# Altium schematic symbol library Sensor_Humidity.SchLib: 14 symbols
Pins are listed as number, name and electrical type; pins without a type are passive.

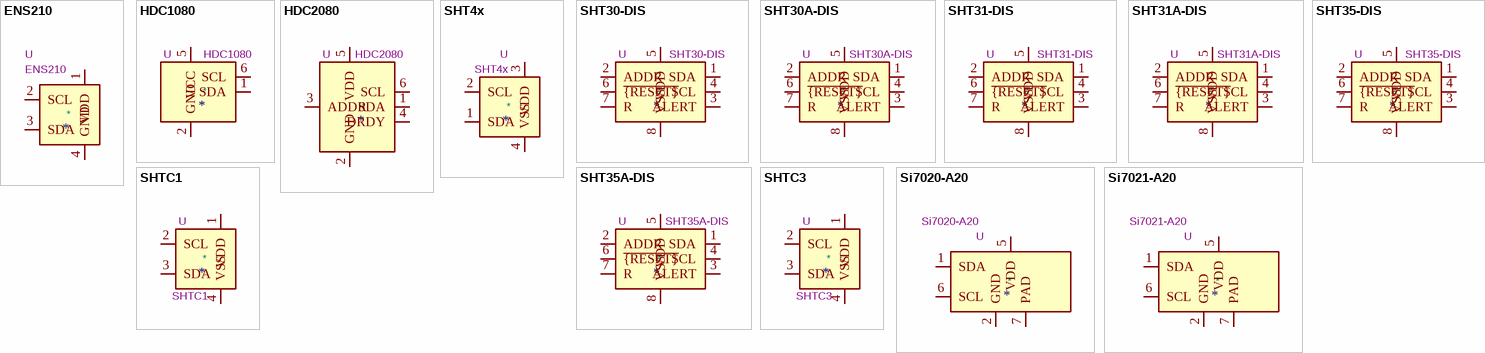
[diagram p0: symbols ENS210 to Si7021-A20]

## ENS210
designator *  value ENS210  Reference: U
ki_keywords: relative humidity temperature i2c pre-calibrated; ki_description: Relative Humidity and Temperature Sensor with I2C Interface; ki_fp_filters: AMS?QFN*EP*2x2mm*P0.95mm*; Footprint: Package_DFN_QFN:AMS_QFN-4-1EP_2x2mm_P0.95mm_EP0.7x1.6mm; Datasheet: http://ams.com/eng/Products/Environmental-Sensors/Relative-Humidity-and-Temperature-Sensors/ENS210
pins: 1 VDD, 2 SCL, 3 SDA, 4 GND, 5 GND hidden

## HDC1080
designator *  value HDC1080  Reference: U
ki_keywords: Temperature Humidity Sensor; ki_description: Low Power,High Accuracy Digital Humidity Sensor with Temperature Sensor; ki_fp_filters: Package*SON:Texas*PWSON*N6*; Footprint: Package_SON:Texas_PWSON-N6; Datasheet: http://www.ti.com/lit/ds/symlink/hdc1080.pdf
pins: 1 SDA, 2 GND, 3 NC hidden, 4 NC hidden, 5 VCC, 6 SCL, 7 DAP hidden

## HDC2080
designator *  value HDC2080  Reference: U
ki_keywords: Temperature Humidity Sensor; ki_description: Low Power Humidity and Temperature Sensor; ki_fp_filters: Package*SON:Texas*PWSON*N6*; Footprint: Package_SON:Texas_PWSON-N6; Datasheet: http://www.ti.com/lit/ds/symlink/hdc2080.pdf
pins: 1 SDA, 2 GND, 3 ADDR, 4 DRDY, 5 VDD, 6 SCL, 7 EP hidden

## SHT4x
designator *  value SHT4x  Reference: U
ki_keywords: Sensirion environment environmental measurement digital SHT40 SHT41 SHT45; ki_description: Digital Humidity and Temperature Sensor, +/-1%RH, +/-0.1degC, I2C, 1.08-3.6V, 16bit, DFN-4; ki_fp_filters: Sensirion?DFN*1.5x1.5mm*P0.8mm*SHT4x*; Footprint: Sensor_Humidity:Sensirion_DFN-4_1.5x1.5mm_P0.8mm_SHT4x_NoCentralPad; Datasheet: https://sensirion.com/media/documents/33FD6951/624C4357/Datasheet_SHT4x.pdf
pins: 1 SDA, 2 SCL, 3 VDD, 4 VSS

## SHT30-DIS
designator *  value SHT30-DIS  Reference: U
ki_keywords: digital temperature humidity i2c; ki_description: I²C humidity and temperature sensor, ±2%RH, ±0.2°C, DFN-8; ki_fp_filters: Sensirion*DFN*1EP*2.5x2.5mm*P0.5mm*; Footprint: Sensor_Humidity:Sensirion_DFN-8-1EP_2.5x2.5mm_P0.5mm_EP1.1x1.7mm; Datasheet: https://www.sensirion.com/fileadmin/user_upload/customers/sensirion/Dokumente/2_Humidity_Sensors/Datasheets/Sensirion_Humidity_Sensors_SHT3x_Datasheet_digital.pdf
pins: 1 SDA, 2 ADDR, 3 ALERT, 4 SCL, 5 VDD, 6 ~{{RESET}}, 7 R, 8 VSS, 9 VSS hidden

## SHT30A-DIS
designator *  value SHT30A-DIS  Reference: U
ki_keywords: digital temperature humidity automotive i2c; ki_description: I²C humidity and temperature sensor, ±3%RH, ±0.3°C, AEQ-100, DFN-8; ki_fp_filters: Sensirion*DFN*1EP*2.5x2.5mm*P0.5mm*; Footprint: Sensor_Humidity:Sensirion_DFN-8-1EP_2.5x2.5mm_P0.5mm_EP1.1x1.7mm; Datasheet: https://www.sensirion.com/fileadmin/user_upload/customers/sensirion/Dokumente/2_Humidity_Sensors/Datasheets/Sensirion_Humidity_Sensors_SHT3xA_Datasheet.pdf
pins: 1 SDA, 2 ADDR, 3 ALERT, 4 SCL, 5 VDD, 6 ~{{RESET}}, 7 R, 8 VSS, 9 VSS hidden

## SHT31-DIS
designator *  value SHT31-DIS  Reference: U
ki_keywords: digital temperature humidity i2c; ki_description: I²C humidity and temperature sensor, ±2%RH, ±0.2°C, DFN-8; ki_fp_filters: Sensirion*DFN*1EP*2.5x2.5mm*P0.5mm*; Footprint: Sensor_Humidity:Sensirion_DFN-8-1EP_2.5x2.5mm_P0.5mm_EP1.1x1.7mm; Datasheet: https://www.sensirion.com/fileadmin/user_upload/customers/sensirion/Dokumente/2_Humidity_Sensors/Datasheets/Sensirion_Humidity_Sensors_SHT3x_Datasheet_digital.pdf
pins: 1 SDA, 2 ADDR, 3 ALERT, 4 SCL, 5 VDD, 6 ~{{RESET}}, 7 R, 8 VSS, 9 VSS hidden

## SHT31A-DIS
designator *  value SHT31A-DIS  Reference: U
ki_keywords: digital temperature humidity automotive i2c; ki_description: I²C humidity and temperature sensor, ±2%RH, ±0.3°C, AEQ-100, DFN-8; ki_fp_filters: Sensirion*DFN*1EP*2.5x2.5mm*P0.5mm*; Footprint: Sensor_Humidity:Sensirion_DFN-8-1EP_2.5x2.5mm_P0.5mm_EP1.1x1.7mm; Datasheet: https://www.sensirion.com/fileadmin/user_upload/customers/sensirion/Dokumente/2_Humidity_Sensors/Datasheets/Sensirion_Humidity_Sensors_SHT3xA_Datasheet.pdf
pins: 1 SDA, 2 ADDR, 3 ALERT, 4 SCL, 5 VDD, 6 ~{{RESET}}, 7 R, 8 VSS, 9 VSS hidden

## SHT35-DIS
designator *  value SHT35-DIS  Reference: U
ki_keywords: digital temperature humidity i2c; ki_description: I²C humidity and temperature sensor, ±1.5%RH, ±0.1°C, DFN-8; ki_fp_filters: Sensirion*DFN*1EP*2.5x2.5mm*P0.5mm*; Footprint: Sensor_Humidity:Sensirion_DFN-8-1EP_2.5x2.5mm_P0.5mm_EP1.1x1.7mm; Datasheet: https://www.sensirion.com/fileadmin/user_upload/customers/sensirion/Dokumente/2_Humidity_Sensors/Datasheets/Sensirion_Humidity_Sensors_SHT3x_Datasheet_digital.pdf
pins: 1 SDA, 2 ADDR, 3 ALERT, 4 SCL, 5 VDD, 6 ~{{RESET}}, 7 R, 8 VSS, 9 VSS hidden

## SHT35A-DIS
designator *  value SHT35A-DIS  Reference: U
ki_keywords: digital temperature humidity automotive i2c; ki_description: I²C humidity and temperature sensor, ±1.5%RH, ±0.2°C, AEQ-100, DFN-8; ki_fp_filters: Sensirion*DFN*1EP*2.5x2.5mm*P0.5mm*; Footprint: Sensor_Humidity:Sensirion_DFN-8-1EP_2.5x2.5mm_P0.5mm_EP1.1x1.7mm; Datasheet: https://www.sensirion.com/fileadmin/user_upload/customers/sensirion/Dokumente/2_Humidity_Sensors/Datasheets/Sensirion_Humidity_Sensors_SHT3xA_Datasheet.pdf
pins: 1 SDA, 2 ADDR, 3 ALERT, 4 SCL, 5 VDD, 6 ~{{RESET}}, 7 R, 8 VSS, 9 VSS hidden

## SHTC1
designator *  value SHTC1  Reference: U
ki_keywords: Sensirion environment environmental measurement digital; ki_description: Humidity and Temperature Sensor, +/-3%RH, +/-0.3degC, I2C, 1.62-1.98V, DFN-4; ki_fp_filters: Sensirion*DFN*1EP*2x2mm*P1mm*EP0.7x1.6mm*; Footprint: Sensor_Humidity:Sensirion_DFN-4-1EP_2x2mm_P1mm_EP0.7x1.6mm; Datasheet: https://www.sensirion.com/fileadmin/user_upload/customers/sensirion/Dokumente/0_Datasheets/Humidity/Sensirion_Humidity_Sensors_SHTC1_Datasheet.pdf
pins: 1 VDD, 2 SCL, 3 SDA, 4 VSS, 5 NC hidden

## SHTC3
designator *  value SHTC3  Reference: U
ki_keywords: Sensirion environment environmental measurement digital; ki_description: Humidity and Temperature Sensor, +/-2%RH, +/-0.2degC, I2C, 1.62-3.6V, DFN-4; ki_fp_filters: Sensirion*DFN*1EP*2x2mm*P1mm*EP0.7x1.6mm*; Footprint: Sensor_Humidity:Sensirion_DFN-4-1EP_2x2mm_P1mm_EP0.7x1.6mm; Datasheet: https://www.sensirion.com/fileadmin/user_upload/customers/sensirion/Dokumente/0_Datasheets/Humidity/Sensirion_Humidity_Sensors_SHTC3_Datasheet.pdf
pins: 1 VDD, 2 SCL, 3 SDA, 4 VSS, 5 NC hidden

## Si7020-A20
designator *  value Si7020-A20  Reference: U
ki_keywords: I2C Humidity Temperature Sensor; ki_description: I2C Humidity and Temperature Sensor, DFN-6; ki_fp_filters: DFN*1EP*3x3mm*P1mm*; Footprint: Package_DFN_QFN:DFN-6-1EP_3x3mm_P1mm_EP1.5x2.4mm; Datasheet: https://www.silabs.com/documents/public/data-sheets/Si7020-A20.pdf
pins: 1 SDA, 2 GND, 3 NC hidden, 4 NC hidden, 5 VDD, 6 SCL, 7 PAD

## Si7021-A20
designator *  value Si7021-A20  Reference: U
ki_keywords: I2C Humidity Temperature Sensor; ki_description: I2C Humidity and Temperature Sensor, DFN-6; ki_fp_filters: DFN*1EP*3x3mm*P1mm*; Footprint: Package_DFN_QFN:DFN-6-1EP_3x3mm_P1mm_EP1.5x2.4mm; Datasheet: https://www.silabs.com/documents/public/data-sheets/Si7021-A20.pdf
pins: 1 SDA, 2 GND, 3 NC hidden, 4 NC hidden, 5 VDD, 6 SCL, 7 PAD